# EAGLE library part TPS61022RWUT (library TPS61022RWUT)
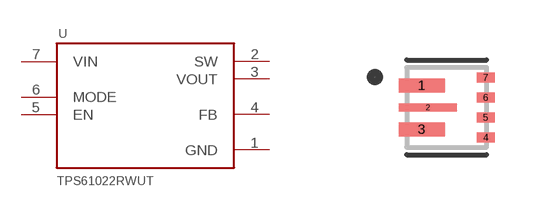
[diagram p0: symbol with the pads of CONV_TPS61022RWUT; footprint CONV_TPS61022RWUT]

Designator prefix U

## TPS61022RWUT (MANUFACTURER: Texas Instruments; MAXIMUM_PACKAGE_HEIGHT: 1.00mm; PARTREV: January 2020; STANDARD: Manufacturer Recommendations)  [CONV_TPS61022RWUT]
1  GND  pwr
2  SW  pwr
3  VOUT  pwr
4  FB  in
5  EN  in
6  MODE  in
7  VIN  in

## Footprint CONV_TPS61022RWUT (pad centres in mm)
smd 1.15 x 0.35: 1 -0.625,0.55; 3 -0.625,-0.55
smd 1.45 x 0.2: 2 -0.475,0
smd 0.45 x 0.25: 4 0.975,-0.75; 5 0.975,-0.25; 6 0.975,0.25; 7 0.975,0.75